# EAGLE library part FX919A (library custom-2002)
4-Level FSK Modem Data Pump
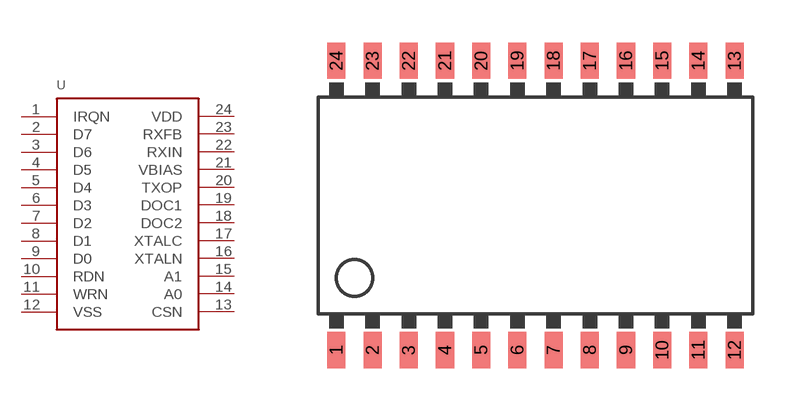
[diagram p8: symbol with the pads of SMD24AD2; footprint SMD24AD2]

Designator prefix U

## FX919A  [SMD24AD2]
1  IRQN
2  D7
3  D6
4  D5
5  D4
6  D3
7  D2
8  D1
9  D0
10  RDN
11  WRN
12  VSS
13  CSN
14  A0
15  A1
16  XTALN
17  XTALC
18  DOC2
19  DOC1
20  TXOP
21  VBIAS
22  RXIN
23  RXFB
24  VDD

## Footprint SMD24AD2 (pad centres in mm)
smd 0.635 x 1.27: 1 -6.35,-5.08; 2 -5.08,-5.08; 3 -3.81,-5.08; 4 -2.54,-5.08; 5 -1.27,-5.08; 6 0,-5.08; 7 1.27,-5.08; 8 2.54,-5.08; 9 3.81,-5.08; 10 5.08,-5.08; 11 6.35,-5.08; 12 7.62,-5.08; 13 7.62,5.08; 14 6.35,5.08; 15 5.08,5.08; 16 3.81,5.08; 17 2.54,5.08; 18 1.27,5.08; 19 0,5.08; 20 -1.27,5.08; 21 -2.54,5.08; 22 -3.81,5.08; 23 -5.08,5.08; 24 -6.35,5.08